# Altium schematic symbol library TROU_FIX.SchLib: 1 symbol
Pins are listed as number, name and electrical type; pins without a type are passive.

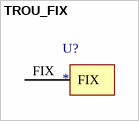
[diagram p0: symbol TROU_FIX]

## TROU_FIX
designator U?
Mounting Hole for EasyPHI
pins: FIX